# Altium footprint library PcbLib1.PcbLib: 2 footprints
Each footprint in its own frame and in the unit in brackets; x right, y up, seen from the top. Pads: shape width x height; smd on the part's side, far side on the other; paste and mask are expansions set on the pad; w line width, h text height; cw(c..) or ccw(c..) is an arc to the next point about the centre after c.
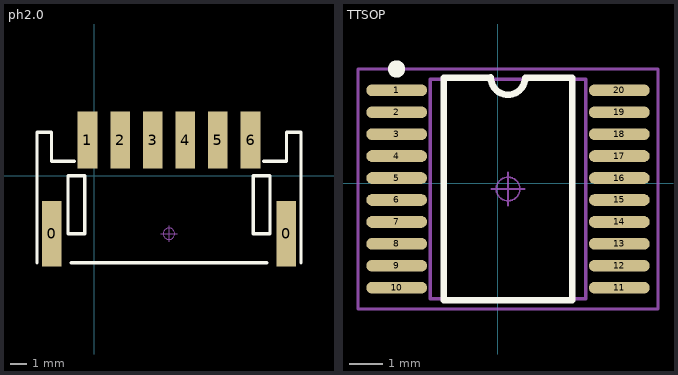
[diagram p0: the footprints below, top view; thin cyan lines are the x and y axes]

## ph2.0 [mm]
pads (8):
  rect 1.2x4 smd: 0(-2.628,-3.562) 0(11.772,-3.562)
  rect 1.2x3.5 smd: 1(-0.428,2.188) 2(1.572,2.188) 3(3.572,2.188) 4(5.572,2.188) 5(7.572,2.188) 6(9.572,2.188)
Top Overlay:
  lines w0.2: -3.524,-5.334 -3.524,2.667 -2.635,2.667 -2.635,0.889 -1.238,0.889 ; -1.428,-5.334 10.572,-5.334 ; 10.382,0.889 11.779,0.889 11.779,2.667 12.668,2.667 12.668,-5.334 ; -1.619,-3.556 -0.603,-3.556 -0.603,0 -1.619,0 -1.619,-3.556 ; 9.747,-3.556 10.763,-3.556 10.763,0 9.747,0 9.747,-3.556
Mechanical 15:
  circle w0.05: c4.572,-3.556 r0.35
  lines w0.05: 4.072,-3.556 5.072,-3.556 ; 4.572,-4.056 4.572,-3.056
3D body "PH2.0 SMD-W-6P.STEP": height 5.55, standoff 0.05, extent -3.428,-5.206 12.572,3.394

## TTSOP [mm]
pads (20):
  oval 1.8x0.35 smd: 1(-2.993,2.753) 2(-2.993,2.103) 3(-2.993,1.453) 4(-2.993,0.803) 5(-2.993,0.153) 6(-2.993,-0.497) 7(-2.993,-1.147) 8(-2.993,-1.797) 9(-2.993,-2.447) 10(-2.993,-3.097) 11(3.607,-3.097) 12(3.607,-2.447) 13(3.607,-1.797) 14(3.607,-1.147) 15(3.607,-0.497) 16(3.607,0.153) 17(3.607,0.803) 18(3.607,1.453) 19(3.607,2.103) 20(3.607,2.753)
Top Overlay:
  circle w0.254: c-2.995,3.384 r0.13
  lines w0.2: -1.598,-3.472 2.212,-3.472 2.212,3.128 0.815,3.128 cw(c0.307,3.128) -0.201,3.13 -1.598,3.127 -1.598,-3.472
Mechanical 13:
  lines w0.1: -1.993,-3.422 2.607,-3.422 2.607,3.078 -1.993,3.078 -1.993,-3.422
Mechanical 15:
  circle w0.05: c0.307,-0.172 r0.35
  lines w0.05: -0.193,-0.172 0.807,-0.172 ; 0.307,-0.672 0.307,0.328
  lines w0.1: -4.138,-3.728 -4.138,3.384 4.752,3.384 4.752,-3.728 -4.138,-3.728
3D body "TSSOP20.STEP": height 1.03, standoff -0.02, extent -2.895,-3.422 3.509,3.078